# Altium schematic symbol library PowerInductorSpoel1.5µH.SchLib: 1 symbol
Pins are listed as number, name and electrical type; pins without a type are passive.

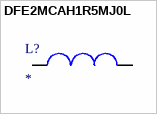
[diagram p0: symbol DFE2MCAH1R5MJ0L]

## DFE2MCAH1R5MJ0L
designator L?
Spoel1.5µH
footprint INDI0806X12M (Chip Inductor, 2-Leads, Body 2.00x1.60mm, IPC Low Density)
pins: 1, 2